# Altium integrated library Linear Technology Power Management Switching Regulator LT1074-LT8705.IntLib: 2252 symbols (part 74 of 148)
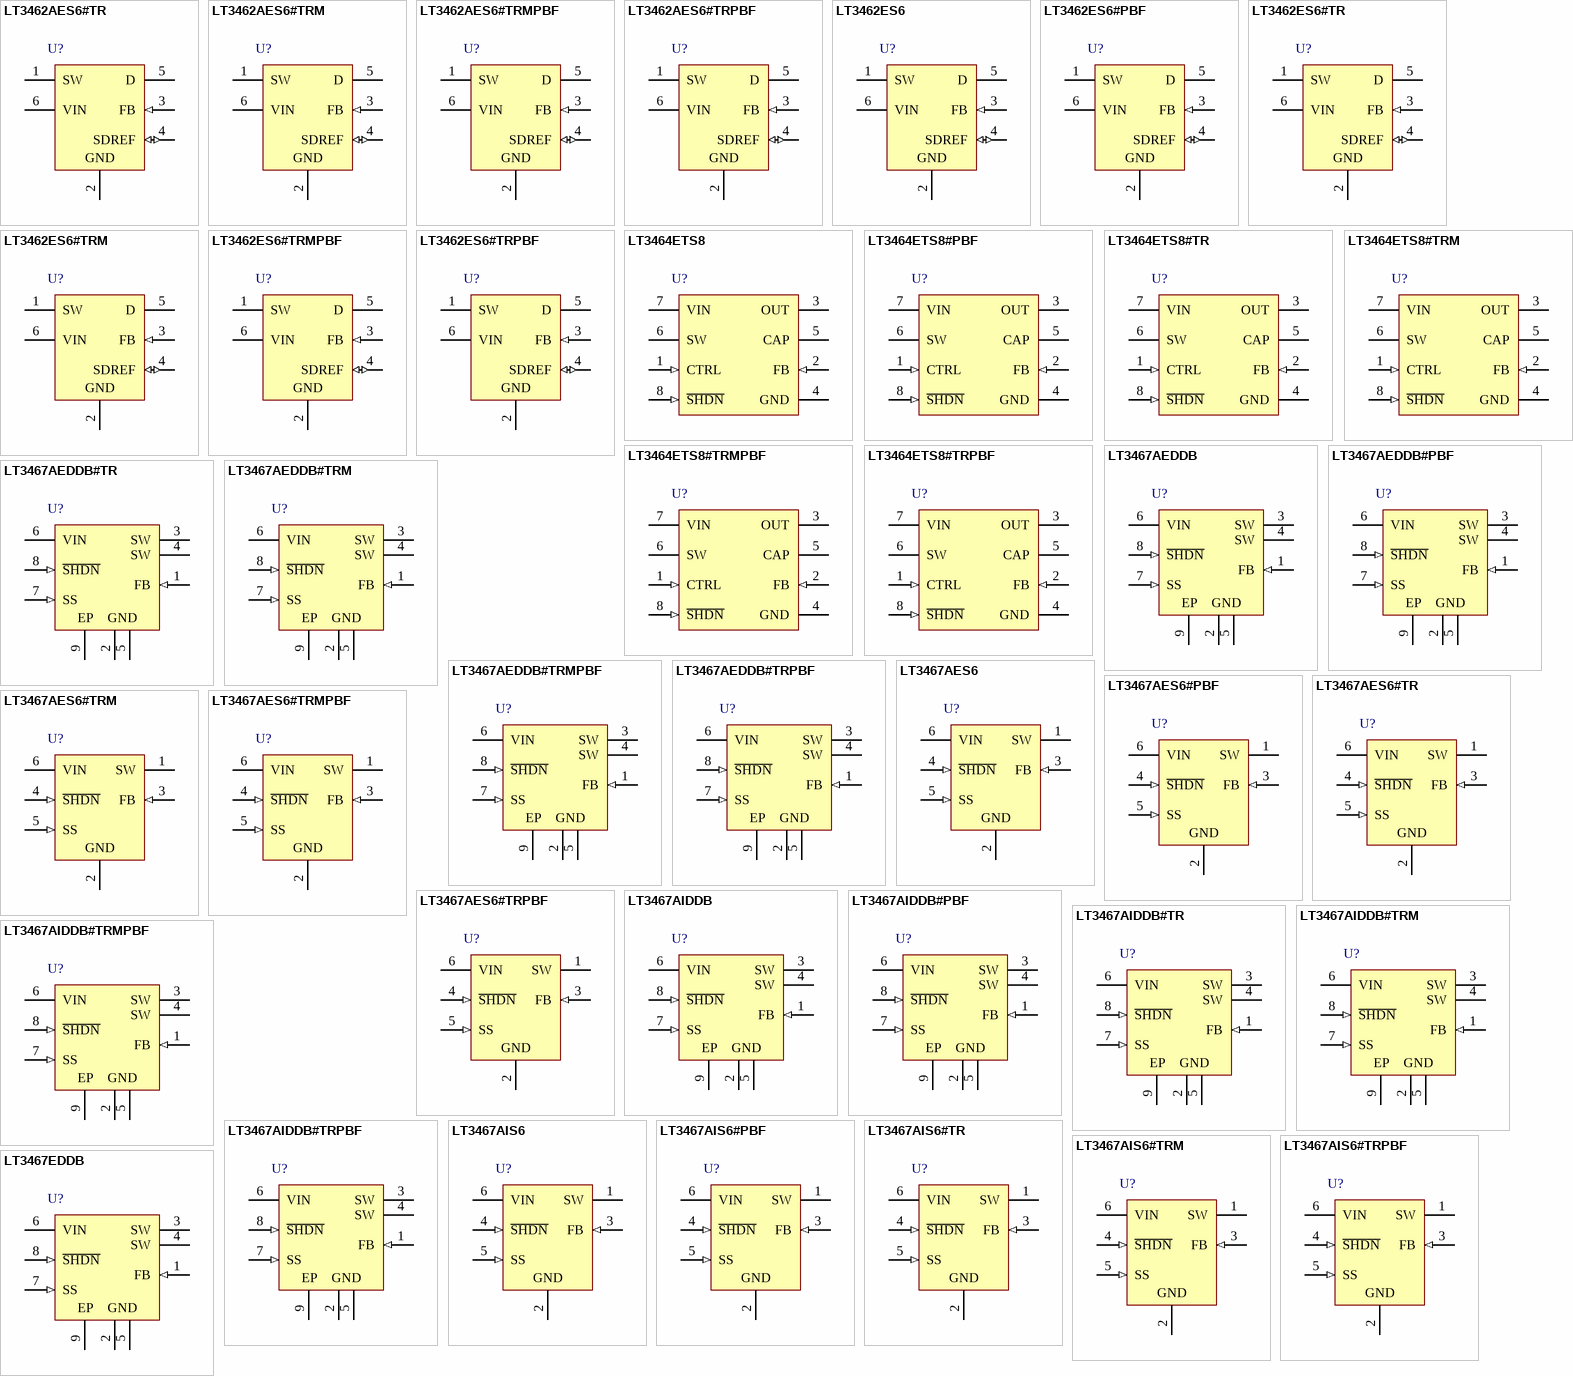
[diagram p144: symbols LT3462AES6#TR to LT3467EDDB]

## LT3467AIDDB#PBF
designator U?
1.1 A Step-Up DC/DC Converter with Integrated Soft-Start MAX, 8-pin SON (DDB-8), -40 to 125 degC, Pb-Free; Manufacturer: Linear Technology; PartNumber: LT3467AIDDB#PBF; Number of Outputs: 1; DatasheetVersion: Rev. E; PackageVersion: Rev. B, 06/2010; PackageReference: DDB-8; PackageDescription: 8-Pin Plastic DFN, Body 3 x 2 mm, Pitch 0.5 mm; RoHS: TRUE; Mounting Technology: Surface Mount; Code_JEDEC: MO-229; ComponentLink1Description: Manufacturer URL; ComponentLink1URL: http://www.linear.com/; ComponentLink2Description: Datasheet; ComponentLink2URL: http://cds.linear.com/docs/en/datasheet/3467afe.pdf; ComponentLink3Description: Package Specification; ComponentLink3URL: http://cds.linear.com/docs/en/packaging/DFN_8_05-08-1702.pdf
footprint LT-DDB-8_V (SON, 8-Leads, Body 3x2mm, Pitch 0.5mm, Thermal Pad 2.2x0.61mm)
pins: 1 FB (in) "Feedback Pin. Reference voltage is 1.255V. Connect resistive divider tap here. Minimize trace area at  FB. Set VOUT = 1.255V(1 + R1/R2).", 2 GND (power) "Ground. Tie directly to local  ground plane.", 3 SW (power) "Switch Pin. (Collector of internal NPN power switch) Connect inductor/diode here and  minimize the metal trace area connected to this pin to minimize EMI.", 4 SW (power) "Switch Pin. (Collector of internal NPN power switch) Connect inductor/diode here and  minimize the metal trace area connected to this pin to minimize EMI.", 5 GND (power) "Ground. Tie directly to local  ground plane.", 6 VIN (power) "Input Supply Pin. Must be locally bypassed.", 7 SS (in) "Soft-Start Pin. Place a soft-start capacitor here. Upon start-up, 4uA of current charges the capacitor to 1.255V. Use a larger capacitor for slower start-up. Leave floating if not in use.", 8 ~{SHDN} (in) "Shutdown Pin. Tie to 2.4V or more to enable device. Ground to shut down.", 9 EP (power) "Ground. Tie directly to local ground plane."

## LT3467AIDDB#TR
designator U?
1.1 A Step-Up DC/DC Converter with Integrated Soft-Start MAX, 8-pin SON (DDB-8), -40 to 125 degC, Tape and Reel; Manufacturer: Linear Technology; PartNumber: LT3467AIDDB#TR; Number of Outputs: 1; DatasheetVersion: Rev. E; PackageVersion: Rev. B, 06/2010; PackageReference: DDB-8; PackageDescription: 8-Pin Plastic DFN, Body 3 x 2 mm, Pitch 0.5 mm; Packing: Tape and Reel; RoHS: FALSE; Mounting Technology: Surface Mount; Code_JEDEC: MO-229; ComponentLink1Description: Manufacturer URL; ComponentLink1URL: http://www.linear.com/; ComponentLink2Description: Datasheet; ComponentLink2URL: http://cds.linear.com/docs/en/datasheet/3467afe.pdf; ComponentLink3Description: Package Specification; ComponentLink3URL: http://cds.linear.com/docs/en/packaging/DFN_8_05-08-1702.pdf
footprint LT-DDB-8_V (SON, 8-Leads, Body 3x2mm, Pitch 0.5mm, Thermal Pad 2.2x0.61mm)
pins: 1 FB (in) "Feedback Pin. Reference voltage is 1.255V. Connect resistive divider tap here. Minimize trace area at  FB. Set VOUT = 1.255V(1 + R1/R2).", 2 GND (power) "Ground. Tie directly to local  ground plane.", 3 SW (power) "Switch Pin. (Collector of internal NPN power switch) Connect inductor/diode here and  minimize the metal trace area connected to this pin to minimize EMI.", 4 SW (power) "Switch Pin. (Collector of internal NPN power switch) Connect inductor/diode here and  minimize the metal trace area connected to this pin to minimize EMI.", 5 GND (power) "Ground. Tie directly to local  ground plane.", 6 VIN (power) "Input Supply Pin. Must be locally bypassed.", 7 SS (in) "Soft-Start Pin. Place a soft-start capacitor here. Upon start-up, 4uA of current charges the capacitor to 1.255V. Use a larger capacitor for slower start-up. Leave floating if not in use.", 8 ~{SHDN} (in) "Shutdown Pin. Tie to 2.4V or more to enable device. Ground to shut down.", 9 EP (power) "Ground. Tie directly to local ground plane."

## LT3467AIDDB#TRM
designator U?
1.1 A Step-Up DC/DC Converter with Integrated Soft-Start MAX, 8-pin SON (DDB-8), -40 to 125 degC, Mini Tape and Reel; Manufacturer: Linear Technology; PartNumber: LT3467AIDDB#TRM; Number of Outputs: 1; DatasheetVersion: Rev. E; PackageVersion: Rev. B, 06/2010; PackageReference: DDB-8; PackageDescription: 8-Pin Plastic DFN, Body 3 x 2 mm, Pitch 0.5 mm; Packing: Mini Tape and Reel; RoHS: FALSE; Mounting Technology: Surface Mount; Code_JEDEC: MO-229; ComponentLink1Description: Manufacturer URL; ComponentLink1URL: http://www.linear.com/; ComponentLink2Description: Datasheet; ComponentLink2URL: http://cds.linear.com/docs/en/datasheet/3467afe.pdf; ComponentLink3Description: Package Specification; ComponentLink3URL: http://cds.linear.com/docs/en/packaging/DFN_8_05-08-1702.pdf
footprint LT-DDB-8_V (SON, 8-Leads, Body 3x2mm, Pitch 0.5mm, Thermal Pad 2.2x0.61mm)
pins: 1 FB (in) "Feedback Pin. Reference voltage is 1.255V. Connect resistive divider tap here. Minimize trace area at  FB. Set VOUT = 1.255V(1 + R1/R2).", 2 GND (power) "Ground. Tie directly to local  ground plane.", 3 SW (power) "Switch Pin. (Collector of internal NPN power switch) Connect inductor/diode here and  minimize the metal trace area connected to this pin to minimize EMI.", 4 SW (power) "Switch Pin. (Collector of internal NPN power switch) Connect inductor/diode here and  minimize the metal trace area connected to this pin to minimize EMI.", 5 GND (power) "Ground. Tie directly to local  ground plane.", 6 VIN (power) "Input Supply Pin. Must be locally bypassed.", 7 SS (in) "Soft-Start Pin. Place a soft-start capacitor here. Upon start-up, 4uA of current charges the capacitor to 1.255V. Use a larger capacitor for slower start-up. Leave floating if not in use.", 8 ~{SHDN} (in) "Shutdown Pin. Tie to 2.4V or more to enable device. Ground to shut down.", 9 EP (power) "Ground. Tie directly to local ground plane."

## LT3467AIDDB#TRMPBF
designator U?
1.1 A Step-Up DC/DC Converter with Integrated Soft-Start MAX, 8-pin SON (DDB-8), -40 to 125 degC, Pb-Free, Mini Tape and Reel; Manufacturer: Linear Technology; PartNumber: LT3467AIDDB#TRMPBF; Number of Outputs: 1; DatasheetVersion: Rev. E; PackageVersion: Rev. B, 06/2010; PackageReference: DDB-8; PackageDescription: 8-Pin Plastic DFN, Body 3 x 2 mm, Pitch 0.5 mm; Supplier 1: Digi-Key; Supplier Part Number 1: LT3467AIDDB#TRMPBF-ND; Packing: Mini Tape and Reel; RoHS: TRUE; Mounting Technology: Surface Mount; Code_JEDEC: MO-229; ComponentLink1Description: Manufacturer URL; ComponentLink1URL: http://www.linear.com/; ComponentLink2Description: Datasheet; ComponentLink2URL: http://cds.linear.com/docs/en/datasheet/3467afe.pdf; ComponentLink3Description: Package Specification; ComponentLink3URL: http://cds.linear.com/docs/en/packaging/DFN_8_05-08-1702.pdf
footprint LT-DDB-8_V (SON, 8-Leads, Body 3x2mm, Pitch 0.5mm, Thermal Pad 2.2x0.61mm)
pins: 1 FB (in) "Feedback Pin. Reference voltage is 1.255V. Connect resistive divider tap here. Minimize trace area at  FB. Set VOUT = 1.255V(1 + R1/R2).", 2 GND (power) "Ground. Tie directly to local  ground plane.", 3 SW (power) "Switch Pin. (Collector of internal NPN power switch) Connect inductor/diode here and  minimize the metal trace area connected to this pin to minimize EMI.", 4 SW (power) "Switch Pin. (Collector of internal NPN power switch) Connect inductor/diode here and  minimize the metal trace area connected to this pin to minimize EMI.", 5 GND (power) "Ground. Tie directly to local  ground plane.", 6 VIN (power) "Input Supply Pin. Must be locally bypassed.", 7 SS (in) "Soft-Start Pin. Place a soft-start capacitor here. Upon start-up, 4uA of current charges the capacitor to 1.255V. Use a larger capacitor for slower start-up. Leave floating if not in use.", 8 ~{SHDN} (in) "Shutdown Pin. Tie to 2.4V or more to enable device. Ground to shut down.", 9 EP (power) "Ground. Tie directly to local ground plane."

## LT3467AIDDB#TRPBF
designator U?
1.1 A Step-Up DC/DC Converter with Integrated Soft-Start MAX, 8-pin SON (DDB-8), -40 to 125 degC, Pb-Free, Tape and Reel; Manufacturer: Linear Technology; PartNumber: LT3467AIDDB#TRPBF; Number of Outputs: 1; DatasheetVersion: Rev. E; PackageVersion: Rev. B, 06/2010; PackageReference: DDB-8; PackageDescription: 8-Pin Plastic DFN, Body 3 x 2 mm, Pitch 0.5 mm; Supplier 1: Digi-Key; Supplier Part Number 1: LT3467AIDDB#TRPBF-ND; Supplier 2: Newark; Supplier Part Number 2: 46P5725; Packing: Tape and Reel; RoHS: TRUE; Mounting Technology: Surface Mount; Code_JEDEC: MO-229; ComponentLink1Description: Manufacturer URL; ComponentLink1URL: http://www.linear.com/; ComponentLink2Description: Datasheet; ComponentLink2URL: http://cds.linear.com/docs/en/datasheet/3467afe.pdf; ComponentLink3Description: Package Specification; ComponentLink3URL: http://cds.linear.com/docs/en/packaging/DFN_8_05-08-1702.pdf
footprint LT-DDB-8_V (SON, 8-Leads, Body 3x2mm, Pitch 0.5mm, Thermal Pad 2.2x0.61mm)
pins: 1 FB (in) "Feedback Pin. Reference voltage is 1.255V. Connect resistive divider tap here. Minimize trace area at  FB. Set VOUT = 1.255V(1 + R1/R2).", 2 GND (power) "Ground. Tie directly to local  ground plane.", 3 SW (power) "Switch Pin. (Collector of internal NPN power switch) Connect inductor/diode here and  minimize the metal trace area connected to this pin to minimize EMI.", 4 SW (power) "Switch Pin. (Collector of internal NPN power switch) Connect inductor/diode here and  minimize the metal trace area connected to this pin to minimize EMI.", 5 GND (power) "Ground. Tie directly to local  ground plane.", 6 VIN (power) "Input Supply Pin. Must be locally bypassed.", 7 SS (in) "Soft-Start Pin. Place a soft-start capacitor here. Upon start-up, 4uA of current charges the capacitor to 1.255V. Use a larger capacitor for slower start-up. Leave floating if not in use.", 8 ~{SHDN} (in) "Shutdown Pin. Tie to 2.4V or more to enable device. Ground to shut down.", 9 EP (power) "Ground. Tie directly to local ground plane."

## LT3467AIS6
designator U?
1.1 A Step-Up DC/DC Converter with Integrated Soft-Start MAX, 6-pin SOT23 (S6-6), -40 to 125 degC; Manufacturer: Linear Technology; PartNumber: LT3467AIS6; Number of Outputs: 1; DatasheetVersion: Rev. E; PackageVersion: Jun-10; PackageReference: S6-6; PackageDescription: 6-Pin Plastic TSOT-23, Body 2.9 x 1.63 mm, Pitch 0.95 mm; RoHS: FALSE; Mounting Technology: Surface Mount; Code_JEDEC: MO-193; ComponentLink1Description: Manufacturer URL; ComponentLink1URL: http://www.linear.com/; ComponentLink2Description: Datasheet; ComponentLink2URL: http://cds.linear.com/docs/en/datasheet/3467afe.pdf; ComponentLink3Description: Package Specification; ComponentLink3URL: http://cds.linear.com/docs/en/packaging/SOT_6_05-08-1636.pdf
footprint LT-S6-6-TSOT-23_N (SOT23, 6-Leads, Body 2.9x1.75mm, Pitch 0.95mm, IPC Medium Density)
footprint LT-S6-6-TSOT-23_L (SOT23, 6-Leads, Body 2.9x1.75mm, Pitch 0.95mm, IPC High Density)
footprint LT-S6-6-TSOT-23_M (SOT23, 6-Leads, Body 2.9x1.75mm, Pitch 0.95mm, IPC Low Density)
pins: 1 SW (power) "Switch Pin. (Collector of internal NPN power switch) Connect inductor/diode here and minimize the metal trace area connected to this pin to minimize EMI.", 2 GND (power) "Ground. Tie directly to local ground plane.", 3 FB (in) "Feedback Pin. Reference voltage is 1.255V. Connect resistive divider tap here. Minimize trace area at FB. Set VOUT = 1.255V(1 + R1/R2).", 4 ~{SHDN} (in) "Shutdown Pin. Tie to 2.4V or more to enable device. Ground to shut down.", 5 SS (in) "Soft-Start Pin. Place a soft-start capacitor here. Upon start-up, 4uA of current charges the capacitor to 1.255V. Use a larger capacitor for slower start-up. Leave floating if not in use.", 6 VIN (power) "Input Supply Pin. Must be locally bypassed."

## LT3467AIS6#PBF
designator U?
1.1 A Step-Up DC/DC Converter with Integrated Soft-Start MAX, 6-pin SOT23 (S6-6), -40 to 125 degC, Pb-Free; Manufacturer: Linear Technology; PartNumber: LT3467AIS6#PBF; Number of Outputs: 1; DatasheetVersion: Rev. E; PackageVersion: Jun-10; PackageReference: S6-6; PackageDescription: 6-Pin Plastic TSOT-23, Body 2.9 x 1.63 mm, Pitch 0.95 mm; Supplier 1: Newark; Supplier Part Number 1: 78T3996; RoHS: TRUE; Mounting Technology: Surface Mount; Code_JEDEC: MO-193; ComponentLink1Description: Manufacturer URL; ComponentLink1URL: http://www.linear.com/; ComponentLink2Description: Datasheet; ComponentLink2URL: http://cds.linear.com/docs/en/datasheet/3467afe.pdf; ComponentLink3Description: Package Specification; ComponentLink3URL: http://cds.linear.com/docs/en/packaging/SOT_6_05-08-1636.pdf
footprint LT-S6-6-TSOT-23_N (SOT23, 6-Leads, Body 2.9x1.75mm, Pitch 0.95mm, IPC Medium Density)
footprint LT-S6-6-TSOT-23_L (SOT23, 6-Leads, Body 2.9x1.75mm, Pitch 0.95mm, IPC High Density)
footprint LT-S6-6-TSOT-23_M (SOT23, 6-Leads, Body 2.9x1.75mm, Pitch 0.95mm, IPC Low Density)
pins: 1 SW (power) "Switch Pin. (Collector of internal NPN power switch) Connect inductor/diode here and minimize the metal trace area connected to this pin to minimize EMI.", 2 GND (power) "Ground. Tie directly to local ground plane.", 3 FB (in) "Feedback Pin. Reference voltage is 1.255V. Connect resistive divider tap here. Minimize trace area at FB. Set VOUT = 1.255V(1 + R1/R2).", 4 ~{SHDN} (in) "Shutdown Pin. Tie to 2.4V or more to enable device. Ground to shut down.", 5 SS (in) "Soft-Start Pin. Place a soft-start capacitor here. Upon start-up, 4uA of current charges the capacitor to 1.255V. Use a larger capacitor for slower start-up. Leave floating if not in use.", 6 VIN (power) "Input Supply Pin. Must be locally bypassed."

## LT3467AIS6#TR
designator U?
1.1 A Step-Up DC/DC Converter with Integrated Soft-Start MAX, 6-pin SOT23 (S6-6), -40 to 125 degC, Tape and Reel; Manufacturer: Linear Technology; PartNumber: LT3467AIS6#TR; Number of Outputs: 1; DatasheetVersion: Rev. E; PackageVersion: Jun-10; PackageReference: S6-6; PackageDescription: 6-Pin Plastic TSOT-23, Body 2.9 x 1.63 mm, Pitch 0.95 mm; Packing: Tape and Reel; RoHS: FALSE; Mounting Technology: Surface Mount; Code_JEDEC: MO-193; ComponentLink1Description: Manufacturer URL; ComponentLink1URL: http://www.linear.com/; ComponentLink2Description: Datasheet; ComponentLink2URL: http://cds.linear.com/docs/en/datasheet/3467afe.pdf; ComponentLink3Description: Package Specification; ComponentLink3URL: http://cds.linear.com/docs/en/packaging/SOT_6_05-08-1636.pdf
footprint LT-S6-6-TSOT-23_N (SOT23, 6-Leads, Body 2.9x1.75mm, Pitch 0.95mm, IPC Medium Density)
footprint LT-S6-6-TSOT-23_L (SOT23, 6-Leads, Body 2.9x1.75mm, Pitch 0.95mm, IPC High Density)
footprint LT-S6-6-TSOT-23_M (SOT23, 6-Leads, Body 2.9x1.75mm, Pitch 0.95mm, IPC Low Density)
pins: 1 SW (power) "Switch Pin. (Collector of internal NPN power switch) Connect inductor/diode here and minimize the metal trace area connected to this pin to minimize EMI.", 2 GND (power) "Ground. Tie directly to local ground plane.", 3 FB (in) "Feedback Pin. Reference voltage is 1.255V. Connect resistive divider tap here. Minimize trace area at FB. Set VOUT = 1.255V(1 + R1/R2).", 4 ~{SHDN} (in) "Shutdown Pin. Tie to 2.4V or more to enable device. Ground to shut down.", 5 SS (in) "Soft-Start Pin. Place a soft-start capacitor here. Upon start-up, 4uA of current charges the capacitor to 1.255V. Use a larger capacitor for slower start-up. Leave floating if not in use.", 6 VIN (power) "Input Supply Pin. Must be locally bypassed."

## LT3467AIS6#TRM
designator U?
1.1 A Step-Up DC/DC Converter with Integrated Soft-Start MAX, 6-pin SOT23 (S6-6), -40 to 125 degC, Mini Tape and Reel; Manufacturer: Linear Technology; PartNumber: LT3467AIS6#TRM; Number of Outputs: 1; DatasheetVersion: Rev. E; PackageVersion: Jun-10; PackageReference: S6-6; PackageDescription: 6-Pin Plastic TSOT-23, Body 2.9 x 1.63 mm, Pitch 0.95 mm; Packing: Mini Tape and Reel; RoHS: FALSE; Mounting Technology: Surface Mount; Code_JEDEC: MO-193; ComponentLink1Description: Manufacturer URL; ComponentLink1URL: http://www.linear.com/; ComponentLink2Description: Datasheet; ComponentLink2URL: http://cds.linear.com/docs/en/datasheet/3467afe.pdf; ComponentLink3Description: Package Specification; ComponentLink3URL: http://cds.linear.com/docs/en/packaging/SOT_6_05-08-1636.pdf
footprint LT-S6-6-TSOT-23_N (SOT23, 6-Leads, Body 2.9x1.75mm, Pitch 0.95mm, IPC Medium Density)
footprint LT-S6-6-TSOT-23_L (SOT23, 6-Leads, Body 2.9x1.75mm, Pitch 0.95mm, IPC High Density)
footprint LT-S6-6-TSOT-23_M (SOT23, 6-Leads, Body 2.9x1.75mm, Pitch 0.95mm, IPC Low Density)
pins: 1 SW (power) "Switch Pin. (Collector of internal NPN power switch) Connect inductor/diode here and minimize the metal trace area connected to this pin to minimize EMI.", 2 GND (power) "Ground. Tie directly to local ground plane.", 3 FB (in) "Feedback Pin. Reference voltage is 1.255V. Connect resistive divider tap here. Minimize trace area at FB. Set VOUT = 1.255V(1 + R1/R2).", 4 ~{SHDN} (in) "Shutdown Pin. Tie to 2.4V or more to enable device. Ground to shut down.", 5 SS (in) "Soft-Start Pin. Place a soft-start capacitor here. Upon start-up, 4uA of current charges the capacitor to 1.255V. Use a larger capacitor for slower start-up. Leave floating if not in use.", 6 VIN (power) "Input Supply Pin. Must be locally bypassed."

## LT3467AIS6#TRPBF
designator U?
1.1 A Step-Up DC/DC Converter with Integrated Soft-Start MAX, 6-pin SOT23 (S6-6), -40 to 125 degC, Pb-Free, Tape and Reel; Manufacturer: Linear Technology; PartNumber: LT3467AIS6#TRPBF; Number of Outputs: 1; DatasheetVersion: Rev. E; PackageVersion: Jun-10; PackageReference: S6-6; PackageDescription: 6-Pin Plastic TSOT-23, Body 2.9 x 1.63 mm, Pitch 0.95 mm; Supplier 1: Digi-Key; Supplier Part Number 1: LT3467AIS6#TRPBF-ND; Packing: Tape and Reel; RoHS: TRUE; Mounting Technology: Surface Mount; Code_JEDEC: MO-193; ComponentLink1Description: Manufacturer URL; ComponentLink1URL: http://www.linear.com/; ComponentLink2Description: Datasheet; ComponentLink2URL: http://cds.linear.com/docs/en/datasheet/3467afe.pdf; ComponentLink3Description: Package Specification; ComponentLink3URL: http://cds.linear.com/docs/en/packaging/SOT_6_05-08-1636.pdf
footprint LT-S6-6-TSOT-23_N (SOT23, 6-Leads, Body 2.9x1.75mm, Pitch 0.95mm, IPC Medium Density)
footprint LT-S6-6-TSOT-23_L (SOT23, 6-Leads, Body 2.9x1.75mm, Pitch 0.95mm, IPC High Density)
footprint LT-S6-6-TSOT-23_M (SOT23, 6-Leads, Body 2.9x1.75mm, Pitch 0.95mm, IPC Low Density)
pins: 1 SW (power) "Switch Pin. (Collector of internal NPN power switch) Connect inductor/diode here and minimize the metal trace area connected to this pin to minimize EMI.", 2 GND (power) "Ground. Tie directly to local ground plane.", 3 FB (in) "Feedback Pin. Reference voltage is 1.255V. Connect resistive divider tap here. Minimize trace area at FB. Set VOUT = 1.255V(1 + R1/R2).", 4 ~{SHDN} (in) "Shutdown Pin. Tie to 2.4V or more to enable device. Ground to shut down.", 5 SS (in) "Soft-Start Pin. Place a soft-start capacitor here. Upon start-up, 4uA of current charges the capacitor to 1.255V. Use a larger capacitor for slower start-up. Leave floating if not in use.", 6 VIN (power) "Input Supply Pin. Must be locally bypassed."

## LT3467EDDB
designator U?
1.1 A Step-Up DC/DC Converter with Integrated Soft-Start MAX, 8-pin SON (DDB-8), -40 to 85 degC; Manufacturer: Linear Technology; PartNumber: LT3467EDDB; Number of Outputs: 1; DatasheetVersion: Rev. E; PackageVersion: Rev. B, 06/2010; PackageReference: DDB-8; PackageDescription: 8-Pin Plastic DFN, Body 3 x 2 mm, Pitch 0.5 mm; RoHS: FALSE; Mounting Technology: Surface Mount; Code_JEDEC: MO-229; ComponentLink1Description: Manufacturer URL; ComponentLink1URL: http://www.linear.com/; ComponentLink2Description: Datasheet; ComponentLink2URL: http://cds.linear.com/docs/en/datasheet/3467afe.pdf; ComponentLink3Description: Package Specification; ComponentLink3URL: http://cds.linear.com/docs/en/packaging/DFN_8_05-08-1702.pdf
footprint LT-DDB-8_V (SON, 8-Leads, Body 3x2mm, Pitch 0.5mm, Thermal Pad 2.2x0.61mm)
pins: 1 FB (in) "Feedback Pin. Reference voltage is 1.255V. Connect resistive divider tap here. Minimize trace area at  FB. Set VOUT = 1.255V(1 + R1/R2).", 2 GND (power) "Ground. Tie directly to local  ground plane.", 3 SW (power) "Switch Pin. (Collector of internal NPN power switch) Connect inductor/diode here and  minimize the metal trace area connected to this pin to minimize EMI.", 4 SW (power) "Switch Pin. (Collector of internal NPN power switch) Connect inductor/diode here and  minimize the metal trace area connected to this pin to minimize EMI.", 5 GND (power) "Ground. Tie directly to local  ground plane.", 6 VIN (power) "Input Supply Pin. Must be locally bypassed.", 7 SS (in) "Soft-Start Pin. Place a soft-start capacitor here. Upon start-up, 4uA of current charges the capacitor to 1.255V. Use a larger capacitor for slower start-up. Leave floating if not in use.", 8 ~{SHDN} (in) "Shutdown Pin. Tie to 2.4V or more to enable device. Ground to shut down.", 9 EP (power) "Ground. Tie directly to local ground plane."

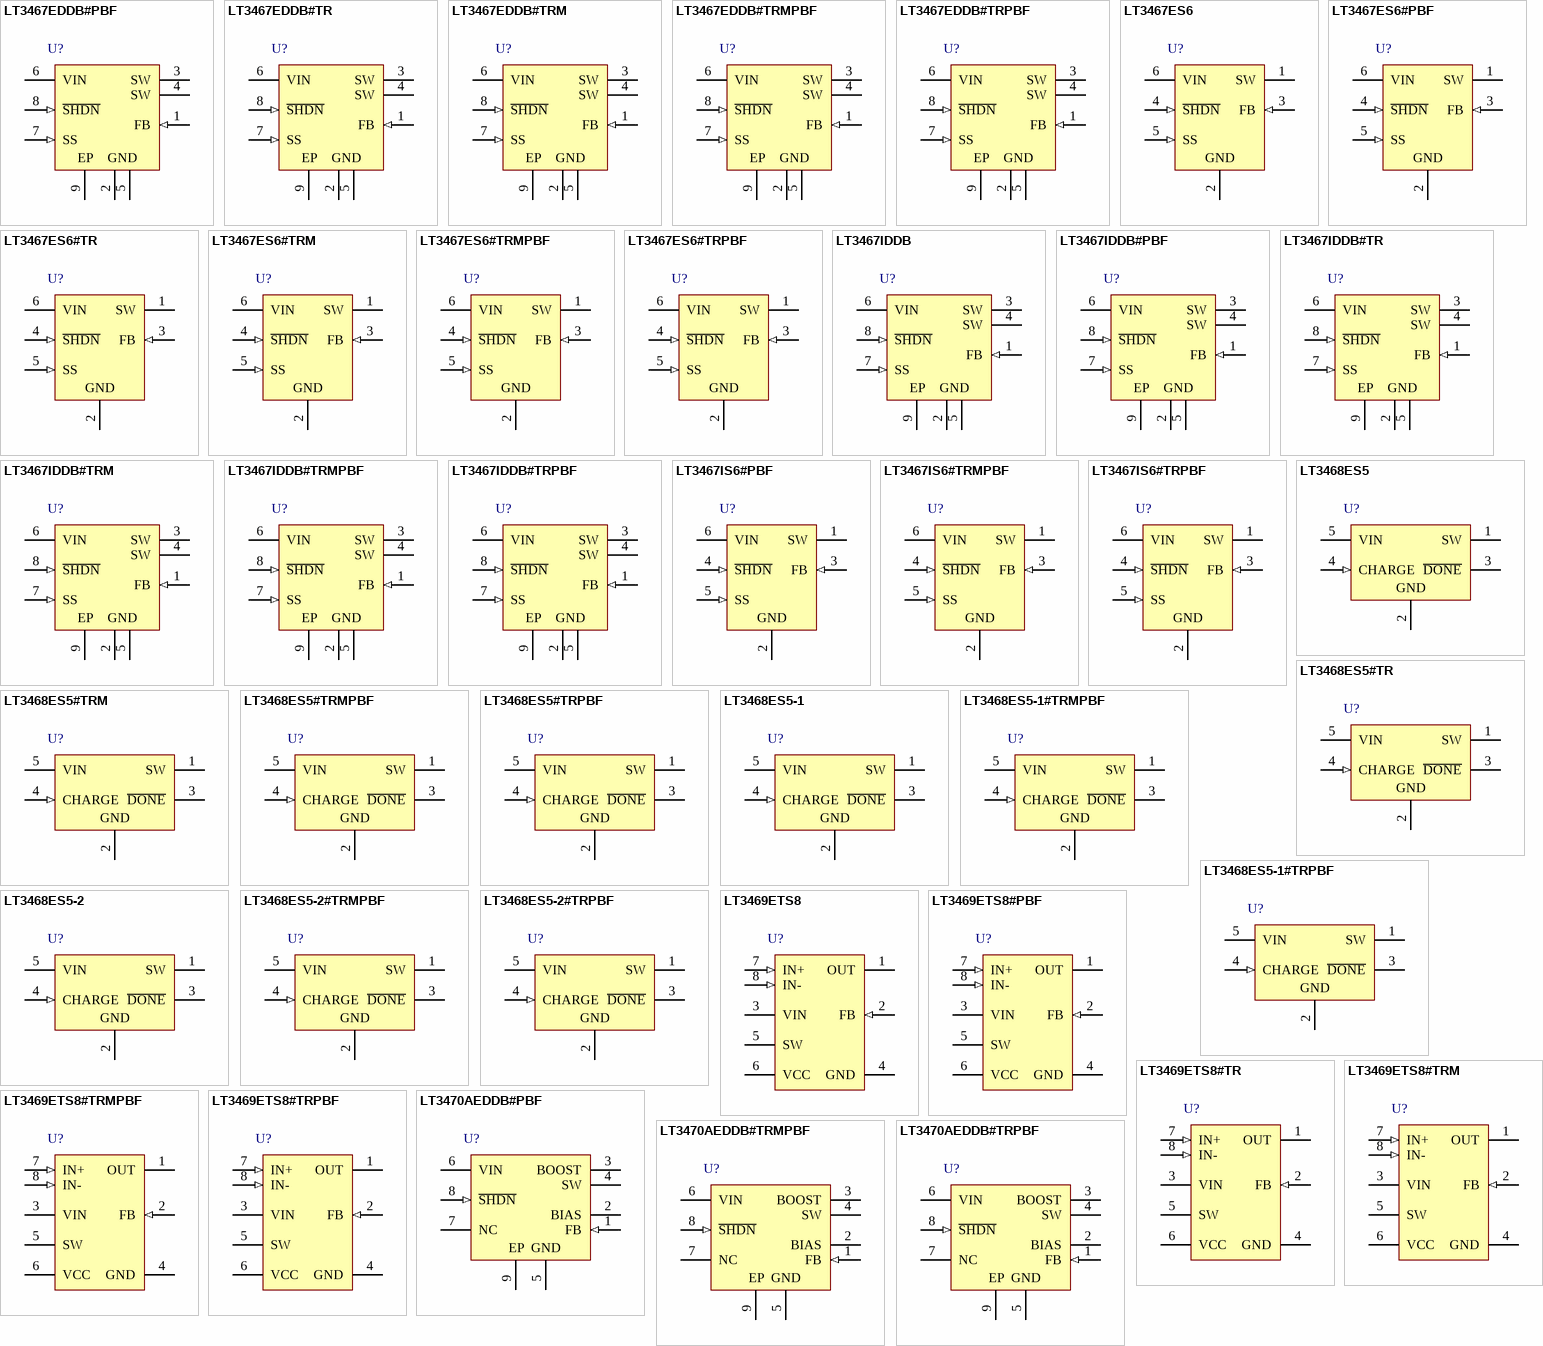
[diagram p37: symbols LT3467EDDB#PBF to LT3470AEDDB#TRPBF]

## LT3467EDDB#PBF
designator U?
1.1 A Step-Up DC/DC Converter with Integrated Soft-Start MAX, 8-pin SON (DDB-8), -40 to 85 degC, Pb-Free; Manufacturer: Linear Technology; PartNumber: LT3467EDDB#PBF; Number of Outputs: 1; DatasheetVersion: Rev. E; PackageVersion: Rev. B, 06/2010; PackageReference: DDB-8; PackageDescription: 8-Pin Plastic DFN, Body 3 x 2 mm, Pitch 0.5 mm; Supplier 1: Newark; Supplier Part Number 1: 78T3997; RoHS: TRUE; Mounting Technology: Surface Mount; Code_JEDEC: MO-229; ComponentLink1Description: Manufacturer URL; ComponentLink1URL: http://www.linear.com/; ComponentLink2Description: Datasheet; ComponentLink2URL: http://cds.linear.com/docs/en/datasheet/3467afe.pdf; ComponentLink3Description: Package Specification; ComponentLink3URL: http://cds.linear.com/docs/en/packaging/DFN_8_05-08-1702.pdf
footprint LT-DDB-8_V (SON, 8-Leads, Body 3x2mm, Pitch 0.5mm, Thermal Pad 2.2x0.61mm)
pins: 1 FB (in) "Feedback Pin. Reference voltage is 1.255V. Connect resistive divider tap here. Minimize trace area at  FB. Set VOUT = 1.255V(1 + R1/R2).", 2 GND (power) "Ground. Tie directly to local  ground plane.", 3 SW (power) "Switch Pin. (Collector of internal NPN power switch) Connect inductor/diode here and  minimize the metal trace area connected to this pin to minimize EMI.", 4 SW (power) "Switch Pin. (Collector of internal NPN power switch) Connect inductor/diode here and  minimize the metal trace area connected to this pin to minimize EMI.", 5 GND (power) "Ground. Tie directly to local  ground plane.", 6 VIN (power) "Input Supply Pin. Must be locally bypassed.", 7 SS (in) "Soft-Start Pin. Place a soft-start capacitor here. Upon start-up, 4uA of current charges the capacitor to 1.255V. Use a larger capacitor for slower start-up. Leave floating if not in use.", 8 ~{SHDN} (in) "Shutdown Pin. Tie to 2.4V or more to enable device. Ground to shut down.", 9 EP (power) "Ground. Tie directly to local ground plane."

## LT3467EDDB#TR
designator U?
1.1 A Step-Up DC/DC Converter with Integrated Soft-Start MAX, 8-pin SON (DDB-8), -40 to 85 degC, Tape and Reel; Manufacturer: Linear Technology; PartNumber: LT3467EDDB#TR; Number of Outputs: 1; DatasheetVersion: Rev. E; PackageVersion: Rev. B, 06/2010; PackageReference: DDB-8; PackageDescription: 8-Pin Plastic DFN, Body 3 x 2 mm, Pitch 0.5 mm; Packing: Tape and Reel; RoHS: FALSE; Mounting Technology: Surface Mount; Code_JEDEC: MO-229; ComponentLink1Description: Manufacturer URL; ComponentLink1URL: http://www.linear.com/; ComponentLink2Description: Datasheet; ComponentLink2URL: http://cds.linear.com/docs/en/datasheet/3467afe.pdf; ComponentLink3Description: Package Specification; ComponentLink3URL: http://cds.linear.com/docs/en/packaging/DFN_8_05-08-1702.pdf
footprint LT-DDB-8_V (SON, 8-Leads, Body 3x2mm, Pitch 0.5mm, Thermal Pad 2.2x0.61mm)
pins: 1 FB (in) "Feedback Pin. Reference voltage is 1.255V. Connect resistive divider tap here. Minimize trace area at  FB. Set VOUT = 1.255V(1 + R1/R2).", 2 GND (power) "Ground. Tie directly to local  ground plane.", 3 SW (power) "Switch Pin. (Collector of internal NPN power switch) Connect inductor/diode here and  minimize the metal trace area connected to this pin to minimize EMI.", 4 SW (power) "Switch Pin. (Collector of internal NPN power switch) Connect inductor/diode here and  minimize the metal trace area connected to this pin to minimize EMI.", 5 GND (power) "Ground. Tie directly to local  ground plane.", 6 VIN (power) "Input Supply Pin. Must be locally bypassed.", 7 SS (in) "Soft-Start Pin. Place a soft-start capacitor here. Upon start-up, 4uA of current charges the capacitor to 1.255V. Use a larger capacitor for slower start-up. Leave floating if not in use.", 8 ~{SHDN} (in) "Shutdown Pin. Tie to 2.4V or more to enable device. Ground to shut down.", 9 EP (power) "Ground. Tie directly to local ground plane."

## LT3467EDDB#TRM
designator U?
1.1 A Step-Up DC/DC Converter with Integrated Soft-Start MAX, 8-pin SON (DDB-8), -40 to 85 degC, Mini Tape and Reel; Manufacturer: Linear Technology; PartNumber: LT3467EDDB#TRM; Number of Outputs: 1; DatasheetVersion: Rev. E; PackageVersion: Rev. B, 06/2010; PackageReference: DDB-8; PackageDescription: 8-Pin Plastic DFN, Body 3 x 2 mm, Pitch 0.5 mm; Packing: Mini Tape and Reel; RoHS: FALSE; Mounting Technology: Surface Mount; Code_JEDEC: MO-229; ComponentLink1Description: Manufacturer URL; ComponentLink1URL: http://www.linear.com/; ComponentLink2Description: Datasheet; ComponentLink2URL: http://cds.linear.com/docs/en/datasheet/3467afe.pdf; ComponentLink3Description: Package Specification; ComponentLink3URL: http://cds.linear.com/docs/en/packaging/DFN_8_05-08-1702.pdf
footprint LT-DDB-8_V (SON, 8-Leads, Body 3x2mm, Pitch 0.5mm, Thermal Pad 2.2x0.61mm)
pins: 1 FB (in) "Feedback Pin. Reference voltage is 1.255V. Connect resistive divider tap here. Minimize trace area at  FB. Set VOUT = 1.255V(1 + R1/R2).", 2 GND (power) "Ground. Tie directly to local  ground plane.", 3 SW (power) "Switch Pin. (Collector of internal NPN power switch) Connect inductor/diode here and  minimize the metal trace area connected to this pin to minimize EMI.", 4 SW (power) "Switch Pin. (Collector of internal NPN power switch) Connect inductor/diode here and  minimize the metal trace area connected to this pin to minimize EMI.", 5 GND (power) "Ground. Tie directly to local  ground plane.", 6 VIN (power) "Input Supply Pin. Must be locally bypassed.", 7 SS (in) "Soft-Start Pin. Place a soft-start capacitor here. Upon start-up, 4uA of current charges the capacitor to 1.255V. Use a larger capacitor for slower start-up. Leave floating if not in use.", 8 ~{SHDN} (in) "Shutdown Pin. Tie to 2.4V or more to enable device. Ground to shut down.", 9 EP (power) "Ground. Tie directly to local ground plane."

## LT3467EDDB#TRMPBF
designator U?
1.1 A Step-Up DC/DC Converter with Integrated Soft-Start MAX, 8-pin SON (DDB-8), -40 to 85 degC, Pb-Free, Mini Tape and Reel; Manufacturer: Linear Technology; PartNumber: LT3467EDDB#TRMPBF; Number of Outputs: 1; DatasheetVersion: Rev. E; PackageVersion: Rev. B, 06/2010; PackageReference: DDB-8; PackageDescription: 8-Pin Plastic DFN, Body 3 x 2 mm, Pitch 0.5 mm; Supplier 1: Digi-Key; Supplier Part Number 1: LT3467EDDB#TRMPBF-ND; Supplier 2: Newark; Supplier Part Number 2: 57M8225; Packing: Mini Tape and Reel; RoHS: TRUE; Mounting Technology: Surface Mount; Code_JEDEC: MO-229; ComponentLink1Description: Manufacturer URL; ComponentLink1URL: http://www.linear.com/; ComponentLink2Description: Datasheet; ComponentLink2URL: http://cds.linear.com/docs/en/datasheet/3467afe.pdf; ComponentLink3Description: Package Specification; ComponentLink3URL: http://cds.linear.com/docs/en/packaging/DFN_8_05-08-1702.pdf
footprint LT-DDB-8_V (SON, 8-Leads, Body 3x2mm, Pitch 0.5mm, Thermal Pad 2.2x0.61mm)
pins: 1 FB (in) "Feedback Pin. Reference voltage is 1.255V. Connect resistive divider tap here. Minimize trace area at  FB. Set VOUT = 1.255V(1 + R1/R2).", 2 GND (power) "Ground. Tie directly to local  ground plane.", 3 SW (power) "Switch Pin. (Collector of internal NPN power switch) Connect inductor/diode here and  minimize the metal trace area connected to this pin to minimize EMI.", 4 SW (power) "Switch Pin. (Collector of internal NPN power switch) Connect inductor/diode here and  minimize the metal trace area connected to this pin to minimize EMI.", 5 GND (power) "Ground. Tie directly to local  ground plane.", 6 VIN (power) "Input Supply Pin. Must be locally bypassed.", 7 SS (in) "Soft-Start Pin. Place a soft-start capacitor here. Upon start-up, 4uA of current charges the capacitor to 1.255V. Use a larger capacitor for slower start-up. Leave floating if not in use.", 8 ~{SHDN} (in) "Shutdown Pin. Tie to 2.4V or more to enable device. Ground to shut down.", 9 EP (power) "Ground. Tie directly to local ground plane."

## LT3467EDDB#TRPBF
designator U?
1.1 A Step-Up DC/DC Converter with Integrated Soft-Start MAX, 8-pin SON (DDB-8), -40 to 85 degC, Pb-Free, Tape and Reel; Manufacturer: Linear Technology; PartNumber: LT3467EDDB#TRPBF; Number of Outputs: 1; DatasheetVersion: Rev. E; PackageVersion: Rev. B, 06/2010; PackageReference: DDB-8; PackageDescription: 8-Pin Plastic DFN, Body 3 x 2 mm, Pitch 0.5 mm; Supplier 1: Digi-Key; Supplier Part Number 1: LT3467EDDB#TRPBF-ND; Supplier 2: Newark; Supplier Part Number 2: 57M8226; Packing: Tape and Reel; RoHS: TRUE; Mounting Technology: Surface Mount; Code_JEDEC: MO-229; ComponentLink1Description: Manufacturer URL; ComponentLink1URL: http://www.linear.com/; ComponentLink2Description: Datasheet; ComponentLink2URL: http://cds.linear.com/docs/en/datasheet/3467afe.pdf; ComponentLink3Description: Package Specification; ComponentLink3URL: http://cds.linear.com/docs/en/packaging/DFN_8_05-08-1702.pdf
footprint LT-DDB-8_V (SON, 8-Leads, Body 3x2mm, Pitch 0.5mm, Thermal Pad 2.2x0.61mm)
pins: 1 FB (in) "Feedback Pin. Reference voltage is 1.255V. Connect resistive divider tap here. Minimize trace area at  FB. Set VOUT = 1.255V(1 + R1/R2).", 2 GND (power) "Ground. Tie directly to local  ground plane.", 3 SW (power) "Switch Pin. (Collector of internal NPN power switch) Connect inductor/diode here and  minimize the metal trace area connected to this pin to minimize EMI.", 4 SW (power) "Switch Pin. (Collector of internal NPN power switch) Connect inductor/diode here and  minimize the metal trace area connected to this pin to minimize EMI.", 5 GND (power) "Ground. Tie directly to local  ground plane.", 6 VIN (power) "Input Supply Pin. Must be locally bypassed.", 7 SS (in) "Soft-Start Pin. Place a soft-start capacitor here. Upon start-up, 4uA of current charges the capacitor to 1.255V. Use a larger capacitor for slower start-up. Leave floating if not in use.", 8 ~{SHDN} (in) "Shutdown Pin. Tie to 2.4V or more to enable device. Ground to shut down.", 9 EP (power) "Ground. Tie directly to local ground plane."

## LT3467ES6
designator U?
1.1 A Step-Up DC/DC Converter with Integrated Soft-Start MAX, 6-pin SOT23 (S6-6), -40 to 85 degC; Manufacturer: Linear Technology; PartNumber: LT3467ES6; Number of Outputs: 1; DatasheetVersion: Rev. E; PackageVersion: Jun-10; PackageReference: S6-6; PackageDescription: 6-Pin Plastic TSOT-23, Body 2.9 x 1.63 mm, Pitch 0.95 mm; RoHS: FALSE; Mounting Technology: Surface Mount; Code_JEDEC: MO-193; ComponentLink1Description: Manufacturer URL; ComponentLink1URL: http://www.linear.com/; ComponentLink2Description: Datasheet; ComponentLink2URL: http://cds.linear.com/docs/en/datasheet/3467afe.pdf; ComponentLink3Description: Package Specification; ComponentLink3URL: http://cds.linear.com/docs/en/packaging/SOT_6_05-08-1636.pdf
footprint LT-S6-6-TSOT-23_N (SOT23, 6-Leads, Body 2.9x1.75mm, Pitch 0.95mm, IPC Medium Density)
footprint LT-S6-6-TSOT-23_L (SOT23, 6-Leads, Body 2.9x1.75mm, Pitch 0.95mm, IPC High Density)
footprint LT-S6-6-TSOT-23_M (SOT23, 6-Leads, Body 2.9x1.75mm, Pitch 0.95mm, IPC Low Density)
pins: 1 SW (power) "Switch Pin. (Collector of internal NPN power switch) Connect inductor/diode here and minimize the metal trace area connected to this pin to minimize EMI.", 2 GND (power) "Ground. Tie directly to local ground plane.", 3 FB (in) "Feedback Pin. Reference voltage is 1.255V. Connect resistive divider tap here. Minimize trace area at FB. Set VOUT = 1.255V(1 + R1/R2).", 4 ~{SHDN} (in) "Shutdown Pin. Tie to 2.4V or more to enable device. Ground to shut down.", 5 SS (in) "Soft-Start Pin. Place a soft-start capacitor here. Upon start-up, 4uA of current charges the capacitor to 1.255V. Use a larger capacitor for slower start-up. Leave floating if not in use.", 6 VIN (power) "Input Supply Pin. Must be locally bypassed."

## LT3467ES6#PBF
designator U?
1.1 A Step-Up DC/DC Converter with Integrated Soft-Start MAX, 6-pin SOT23 (S6-6), -40 to 85 degC, Pb-Free; Manufacturer: Linear Technology; PartNumber: LT3467ES6#PBF; Number of Outputs: 1; DatasheetVersion: Rev. E; PackageVersion: Jun-10; PackageReference: S6-6; PackageDescription: 6-Pin Plastic TSOT-23, Body 2.9 x 1.63 mm, Pitch 0.95 mm; Supplier 1: Farnell; Supplier Part Number 1: 2308205; Supplier 2: Newark; Supplier Part Number 2: 78T3998; RoHS: TRUE; Mounting Technology: Surface Mount; Code_JEDEC: MO-193; ComponentLink1Description: Manufacturer URL; ComponentLink1URL: http://www.linear.com/; ComponentLink2Description: Datasheet; ComponentLink2URL: http://cds.linear.com/docs/en/datasheet/3467afe.pdf; ComponentLink3Description: Package Specification; ComponentLink3URL: http://cds.linear.com/docs/en/packaging/SOT_6_05-08-1636.pdf
footprint LT-S6-6-TSOT-23_N (SOT23, 6-Leads, Body 2.9x1.75mm, Pitch 0.95mm, IPC Medium Density)
footprint LT-S6-6-TSOT-23_L (SOT23, 6-Leads, Body 2.9x1.75mm, Pitch 0.95mm, IPC High Density)
footprint LT-S6-6-TSOT-23_M (SOT23, 6-Leads, Body 2.9x1.75mm, Pitch 0.95mm, IPC Low Density)
pins: 1 SW (power) "Switch Pin. (Collector of internal NPN power switch) Connect inductor/diode here and minimize the metal trace area connected to this pin to minimize EMI.", 2 GND (power) "Ground. Tie directly to local ground plane.", 3 FB (in) "Feedback Pin. Reference voltage is 1.255V. Connect resistive divider tap here. Minimize trace area at FB. Set VOUT = 1.255V(1 + R1/R2).", 4 ~{SHDN} (in) "Shutdown Pin. Tie to 2.4V or more to enable device. Ground to shut down.", 5 SS (in) "Soft-Start Pin. Place a soft-start capacitor here. Upon start-up, 4uA of current charges the capacitor to 1.255V. Use a larger capacitor for slower start-up. Leave floating if not in use.", 6 VIN (power) "Input Supply Pin. Must be locally bypassed."

## LT3467ES6#TR
designator U?
1.1 A Step-Up DC/DC Converter with Integrated Soft-Start MAX, 6-pin SOT23 (S6-6), -40 to 85 degC, Tape and Reel; Manufacturer: Linear Technology; PartNumber: LT3467ES6#TR; Number of Outputs: 1; DatasheetVersion: Rev. E; PackageVersion: Jun-10; PackageReference: S6-6; PackageDescription: 6-Pin Plastic TSOT-23, Body 2.9 x 1.63 mm, Pitch 0.95 mm; Supplier 1: Digi-Key; Supplier Part Number 1: LT3467ES6#TR-ND; Packing: Tape and Reel; RoHS: FALSE; Mounting Technology: Surface Mount; Code_JEDEC: MO-193; ComponentLink1Description: Manufacturer URL; ComponentLink1URL: http://www.linear.com/; ComponentLink2Description: Datasheet; ComponentLink2URL: http://cds.linear.com/docs/en/datasheet/3467afe.pdf; ComponentLink3Description: Package Specification; ComponentLink3URL: http://cds.linear.com/docs/en/packaging/SOT_6_05-08-1636.pdf
footprint LT-S6-6-TSOT-23_N (SOT23, 6-Leads, Body 2.9x1.75mm, Pitch 0.95mm, IPC Medium Density)
footprint LT-S6-6-TSOT-23_L (SOT23, 6-Leads, Body 2.9x1.75mm, Pitch 0.95mm, IPC High Density)
footprint LT-S6-6-TSOT-23_M (SOT23, 6-Leads, Body 2.9x1.75mm, Pitch 0.95mm, IPC Low Density)
pins: 1 SW (power) "Switch Pin. (Collector of internal NPN power switch) Connect inductor/diode here and minimize the metal trace area connected to this pin to minimize EMI.", 2 GND (power) "Ground. Tie directly to local ground plane.", 3 FB (in) "Feedback Pin. Reference voltage is 1.255V. Connect resistive divider tap here. Minimize trace area at FB. Set VOUT = 1.255V(1 + R1/R2).", 4 ~{SHDN} (in) "Shutdown Pin. Tie to 2.4V or more to enable device. Ground to shut down.", 5 SS (in) "Soft-Start Pin. Place a soft-start capacitor here. Upon start-up, 4uA of current charges the capacitor to 1.255V. Use a larger capacitor for slower start-up. Leave floating if not in use.", 6 VIN (power) "Input Supply Pin. Must be locally bypassed."

## LT3467ES6#TRM
designator U?
1.1 A Step-Up DC/DC Converter with Integrated Soft-Start MAX, 6-pin SOT23 (S6-6), -40 to 85 degC, Mini Tape and Reel; Manufacturer: Linear Technology; PartNumber: LT3467ES6#TRM; Number of Outputs: 1; DatasheetVersion: Rev. E; PackageVersion: Jun-10; PackageReference: S6-6; PackageDescription: 6-Pin Plastic TSOT-23, Body 2.9 x 1.63 mm, Pitch 0.95 mm; Supplier 1: Digi-Key; Supplier Part Number 1: LT3467ES6#TRMTR-ND; Supplier 2: Digi-Key; Supplier Part Number 2: LT3467ES6#TRMCT-ND; Supplier 3: Newark; Supplier Part Number 3: 57M8228; Packing: Mini Tape and Reel; RoHS: FALSE; Mounting Technology: Surface Mount; Code_JEDEC: MO-193; ComponentLink1Description: Manufacturer URL; ComponentLink1URL: http://www.linear.com/; ComponentLink2Description: Datasheet; ComponentLink2URL: http://cds.linear.com/docs/en/datasheet/3467afe.pdf; ComponentLink3Description: Package Specification; ComponentLink3URL: http://cds.linear.com/docs/en/packaging/SOT_6_05-08-1636.pdf
footprint LT-S6-6-TSOT-23_N (SOT23, 6-Leads, Body 2.9x1.75mm, Pitch 0.95mm, IPC Medium Density)
footprint LT-S6-6-TSOT-23_L (SOT23, 6-Leads, Body 2.9x1.75mm, Pitch 0.95mm, IPC High Density)
footprint LT-S6-6-TSOT-23_M (SOT23, 6-Leads, Body 2.9x1.75mm, Pitch 0.95mm, IPC Low Density)
pins: 1 SW (power) "Switch Pin. (Collector of internal NPN power switch) Connect inductor/diode here and minimize the metal trace area connected to this pin to minimize EMI.", 2 GND (power) "Ground. Tie directly to local ground plane.", 3 FB (in) "Feedback Pin. Reference voltage is 1.255V. Connect resistive divider tap here. Minimize trace area at FB. Set VOUT = 1.255V(1 + R1/R2).", 4 ~{SHDN} (in) "Shutdown Pin. Tie to 2.4V or more to enable device. Ground to shut down.", 5 SS (in) "Soft-Start Pin. Place a soft-start capacitor here. Upon start-up, 4uA of current charges the capacitor to 1.255V. Use a larger capacitor for slower start-up. Leave floating if not in use.", 6 VIN (power) "Input Supply Pin. Must be locally bypassed."

## LT3467ES6#TRMPBF
designator U?
1.1 A Step-Up DC/DC Converter with Integrated Soft-Start MAX, 6-pin SOT23 (S6-6), -40 to 85 degC, Pb-Free, Mini Tape and Reel; Manufacturer: Linear Technology; PartNumber: LT3467ES6#TRMPBF; Number of Outputs: 1; DatasheetVersion: Rev. E; PackageVersion: Jun-10; PackageReference: S6-6; PackageDescription: 6-Pin Plastic TSOT-23, Body 2.9 x 1.63 mm, Pitch 0.95 mm; Supplier 1: Digi-Key; Supplier Part Number 1: LT3467ES6#TRMPBFTR-ND; Supplier 2: Digi-Key; Supplier Part Number 2: LT3467ES6#TRMPBFCT-ND; Supplier 3: Digi-Key; Supplier Part Number 3: LT3467ES6#TRMPBFDKR-ND; Supplier 4: Farnell; Supplier Part Number 4: 1663828; Supplier 5: Farnell; Supplier Part Number 5: 1663828RL; Supplier 6: Newark; Supplier Part Number 6: 57M8229; Supplier 7: Newark; Supplier Part Number 7: 59M8324; Packing: Mini Tape and Reel; RoHS: TRUE; Mounting Technology: Surface Mount; Code_JEDEC: MO-193; ComponentLink1Description: Manufacturer URL; ComponentLink1URL: http://www.linear.com/; ComponentLink2Description: Datasheet; ComponentLink2URL: http://cds.linear.com/docs/en/datasheet/3467afe.pdf; ComponentLink3Description: Package Specification; ComponentLink3URL: http://cds.linear.com/docs/en/packaging/SOT_6_05-08-1636.pdf
footprint LT-S6-6-TSOT-23_N (SOT23, 6-Leads, Body 2.9x1.75mm, Pitch 0.95mm, IPC Medium Density)
footprint LT-S6-6-TSOT-23_L (SOT23, 6-Leads, Body 2.9x1.75mm, Pitch 0.95mm, IPC High Density)
footprint LT-S6-6-TSOT-23_M (SOT23, 6-Leads, Body 2.9x1.75mm, Pitch 0.95mm, IPC Low Density)
pins: 1 SW (power) "Switch Pin. (Collector of internal NPN power switch) Connect inductor/diode here and minimize the metal trace area connected to this pin to minimize EMI.", 2 GND (power) "Ground. Tie directly to local ground plane.", 3 FB (in) "Feedback Pin. Reference voltage is 1.255V. Connect resistive divider tap here. Minimize trace area at FB. Set VOUT = 1.255V(1 + R1/R2).", 4 ~{SHDN} (in) "Shutdown Pin. Tie to 2.4V or more to enable device. Ground to shut down.", 5 SS (in) "Soft-Start Pin. Place a soft-start capacitor here. Upon start-up, 4uA of current charges the capacitor to 1.255V. Use a larger capacitor for slower start-up. Leave floating if not in use.", 6 VIN (power) "Input Supply Pin. Must be locally bypassed."

## LT3467ES6#TRPBF
designator U?
1.1 A Step-Up DC/DC Converter with Integrated Soft-Start MAX, 6-pin SOT23 (S6-6), -40 to 85 degC, Pb-Free, Tape and Reel; Manufacturer: Linear Technology; PartNumber: LT3467ES6#TRPBF; Number of Outputs: 1; DatasheetVersion: Rev. E; PackageVersion: Jun-10; PackageReference: S6-6; PackageDescription: 6-Pin Plastic TSOT-23, Body 2.9 x 1.63 mm, Pitch 0.95 mm; Supplier 1: Digi-Key; Supplier Part Number 1: LT3467ES6#TRPBF-ND; Supplier 2: Newark; Supplier Part Number 2: 57M8230; Packing: Tape and Reel; RoHS: TRUE; Mounting Technology: Surface Mount; Code_JEDEC: MO-193; ComponentLink1Description: Manufacturer URL; ComponentLink1URL: http://www.linear.com/; ComponentLink2Description: Datasheet; ComponentLink2URL: http://cds.linear.com/docs/en/datasheet/3467afe.pdf; ComponentLink3Description: Package Specification; ComponentLink3URL: http://cds.linear.com/docs/en/packaging/SOT_6_05-08-1636.pdf
footprint LT-S6-6-TSOT-23_N (SOT23, 6-Leads, Body 2.9x1.75mm, Pitch 0.95mm, IPC Medium Density)
footprint LT-S6-6-TSOT-23_L (SOT23, 6-Leads, Body 2.9x1.75mm, Pitch 0.95mm, IPC High Density)
footprint LT-S6-6-TSOT-23_M (SOT23, 6-Leads, Body 2.9x1.75mm, Pitch 0.95mm, IPC Low Density)
pins: 1 SW (power) "Switch Pin. (Collector of internal NPN power switch) Connect inductor/diode here and minimize the metal trace area connected to this pin to minimize EMI.", 2 GND (power) "Ground. Tie directly to local ground plane.", 3 FB (in) "Feedback Pin. Reference voltage is 1.255V. Connect resistive divider tap here. Minimize trace area at FB. Set VOUT = 1.255V(1 + R1/R2).", 4 ~{SHDN} (in) "Shutdown Pin. Tie to 2.4V or more to enable device. Ground to shut down.", 5 SS (in) "Soft-Start Pin. Place a soft-start capacitor here. Upon start-up, 4uA of current charges the capacitor to 1.255V. Use a larger capacitor for slower start-up. Leave floating if not in use.", 6 VIN (power) "Input Supply Pin. Must be locally bypassed."

## LT3467IDDB
designator U?
1.1 A Step-Up DC/DC Converter with Integrated Soft-Start MAX, 8-pin SON (DDB-8), -40 to 125 degC; Manufacturer: Linear Technology; PartNumber: LT3467IDDB; Number of Outputs: 1; DatasheetVersion: Rev. E; PackageVersion: Rev. B, 06/2010; PackageReference: DDB-8; PackageDescription: 8-Pin Plastic DFN, Body 3 x 2 mm, Pitch 0.5 mm; RoHS: FALSE; Mounting Technology: Surface Mount; Code_JEDEC: MO-229; ComponentLink1Description: Manufacturer URL; ComponentLink1URL: http://www.linear.com/; ComponentLink2Description: Datasheet; ComponentLink2URL: http://cds.linear.com/docs/en/datasheet/3467afe.pdf; ComponentLink3Description: Package Specification; ComponentLink3URL: http://cds.linear.com/docs/en/packaging/DFN_8_05-08-1702.pdf
footprint LT-DDB-8_V (SON, 8-Leads, Body 3x2mm, Pitch 0.5mm, Thermal Pad 2.2x0.61mm)
pins: 1 FB (in) "Feedback Pin. Reference voltage is 1.255V. Connect resistive divider tap here. Minimize trace area at  FB. Set VOUT = 1.255V(1 + R1/R2).", 2 GND (power) "Ground. Tie directly to local  ground plane.", 3 SW (power) "Switch Pin. (Collector of internal NPN power switch) Connect inductor/diode here and  minimize the metal trace area connected to this pin to minimize EMI.", 4 SW (power) "Switch Pin. (Collector of internal NPN power switch) Connect inductor/diode here and  minimize the metal trace area connected to this pin to minimize EMI.", 5 GND (power) "Ground. Tie directly to local  ground plane.", 6 VIN (power) "Input Supply Pin. Must be locally bypassed.", 7 SS (in) "Soft-Start Pin. Place a soft-start capacitor here. Upon start-up, 4uA of current charges the capacitor to 1.255V. Use a larger capacitor for slower start-up. Leave floating if not in use.", 8 ~{SHDN} (in) "Shutdown Pin. Tie to 2.4V or more to enable device. Ground to shut down.", 9 EP (power) "Ground. Tie directly to local ground plane."

## LT3467IDDB#PBF
designator U?
1.1 A Step-Up DC/DC Converter with Integrated Soft-Start MAX, 8-pin SON (DDB-8), -40 to 125 degC, Pb-Free; Manufacturer: Linear Technology; PartNumber: LT3467IDDB#PBF; Number of Outputs: 1; DatasheetVersion: Rev. E; PackageVersion: Rev. B, 06/2010; PackageReference: DDB-8; PackageDescription: 8-Pin Plastic DFN, Body 3 x 2 mm, Pitch 0.5 mm; Supplier 1: Farnell; Supplier Part Number 1: 2294901; Supplier 2: Newark; Supplier Part Number 2: 78T3999; RoHS: TRUE; Mounting Technology: Surface Mount; Code_JEDEC: MO-229; ComponentLink1Description: Manufacturer URL; ComponentLink1URL: http://www.linear.com/; ComponentLink2Description: Datasheet; ComponentLink2URL: http://cds.linear.com/docs/en/datasheet/3467afe.pdf; ComponentLink3Description: Package Specification; ComponentLink3URL: http://cds.linear.com/docs/en/packaging/DFN_8_05-08-1702.pdf
footprint LT-DDB-8_V (SON, 8-Leads, Body 3x2mm, Pitch 0.5mm, Thermal Pad 2.2x0.61mm)
pins: 1 FB (in) "Feedback Pin. Reference voltage is 1.255V. Connect resistive divider tap here. Minimize trace area at  FB. Set VOUT = 1.255V(1 + R1/R2).", 2 GND (power) "Ground. Tie directly to local  ground plane.", 3 SW (power) "Switch Pin. (Collector of internal NPN power switch) Connect inductor/diode here and  minimize the metal trace area connected to this pin to minimize EMI.", 4 SW (power) "Switch Pin. (Collector of internal NPN power switch) Connect inductor/diode here and  minimize the metal trace area connected to this pin to minimize EMI.", 5 GND (power) "Ground. Tie directly to local  ground plane.", 6 VIN (power) "Input Supply Pin. Must be locally bypassed.", 7 SS (in) "Soft-Start Pin. Place a soft-start capacitor here. Upon start-up, 4uA of current charges the capacitor to 1.255V. Use a larger capacitor for slower start-up. Leave floating if not in use.", 8 ~{SHDN} (in) "Shutdown Pin. Tie to 2.4V or more to enable device. Ground to shut down.", 9 EP (power) "Ground. Tie directly to local ground plane."

## LT3467IDDB#TR
designator U?
1.1 A Step-Up DC/DC Converter with Integrated Soft-Start MAX, 8-pin SON (DDB-8), -40 to 125 degC, Tape and Reel; Manufacturer: Linear Technology; PartNumber: LT3467IDDB#TR; Number of Outputs: 1; DatasheetVersion: Rev. E; PackageVersion: Rev. B, 06/2010; PackageReference: DDB-8; PackageDescription: 8-Pin Plastic DFN, Body 3 x 2 mm, Pitch 0.5 mm; Packing: Tape and Reel; RoHS: FALSE; Mounting Technology: Surface Mount; Code_JEDEC: MO-229; ComponentLink1Description: Manufacturer URL; ComponentLink1URL: http://www.linear.com/; ComponentLink2Description: Datasheet; ComponentLink2URL: http://cds.linear.com/docs/en/datasheet/3467afe.pdf; ComponentLink3Description: Package Specification; ComponentLink3URL: http://cds.linear.com/docs/en/packaging/DFN_8_05-08-1702.pdf
footprint LT-DDB-8_V (SON, 8-Leads, Body 3x2mm, Pitch 0.5mm, Thermal Pad 2.2x0.61mm)
pins: 1 FB (in) "Feedback Pin. Reference voltage is 1.255V. Connect resistive divider tap here. Minimize trace area at  FB. Set VOUT = 1.255V(1 + R1/R2).", 2 GND (power) "Ground. Tie directly to local  ground plane.", 3 SW (power) "Switch Pin. (Collector of internal NPN power switch) Connect inductor/diode here and  minimize the metal trace area connected to this pin to minimize EMI.", 4 SW (power) "Switch Pin. (Collector of internal NPN power switch) Connect inductor/diode here and  minimize the metal trace area connected to this pin to minimize EMI.", 5 GND (power) "Ground. Tie directly to local  ground plane.", 6 VIN (power) "Input Supply Pin. Must be locally bypassed.", 7 SS (in) "Soft-Start Pin. Place a soft-start capacitor here. Upon start-up, 4uA of current charges the capacitor to 1.255V. Use a larger capacitor for slower start-up. Leave floating if not in use.", 8 ~{SHDN} (in) "Shutdown Pin. Tie to 2.4V or more to enable device. Ground to shut down.", 9 EP (power) "Ground. Tie directly to local ground plane."